# Altium footprint library SparkFun-Aesthetics.PCBLIB: 126 footprints (part 7 of 8)
Each footprint in its own frame and in the unit in brackets; x right, y up, seen from the top. Pads: shape width x height; smd on the part's side, far side on the other; paste and mask are expansions set on the pad; w line width, h text height; cw(c..) or ccw(c..) is an arc to the next point about the centre after c.
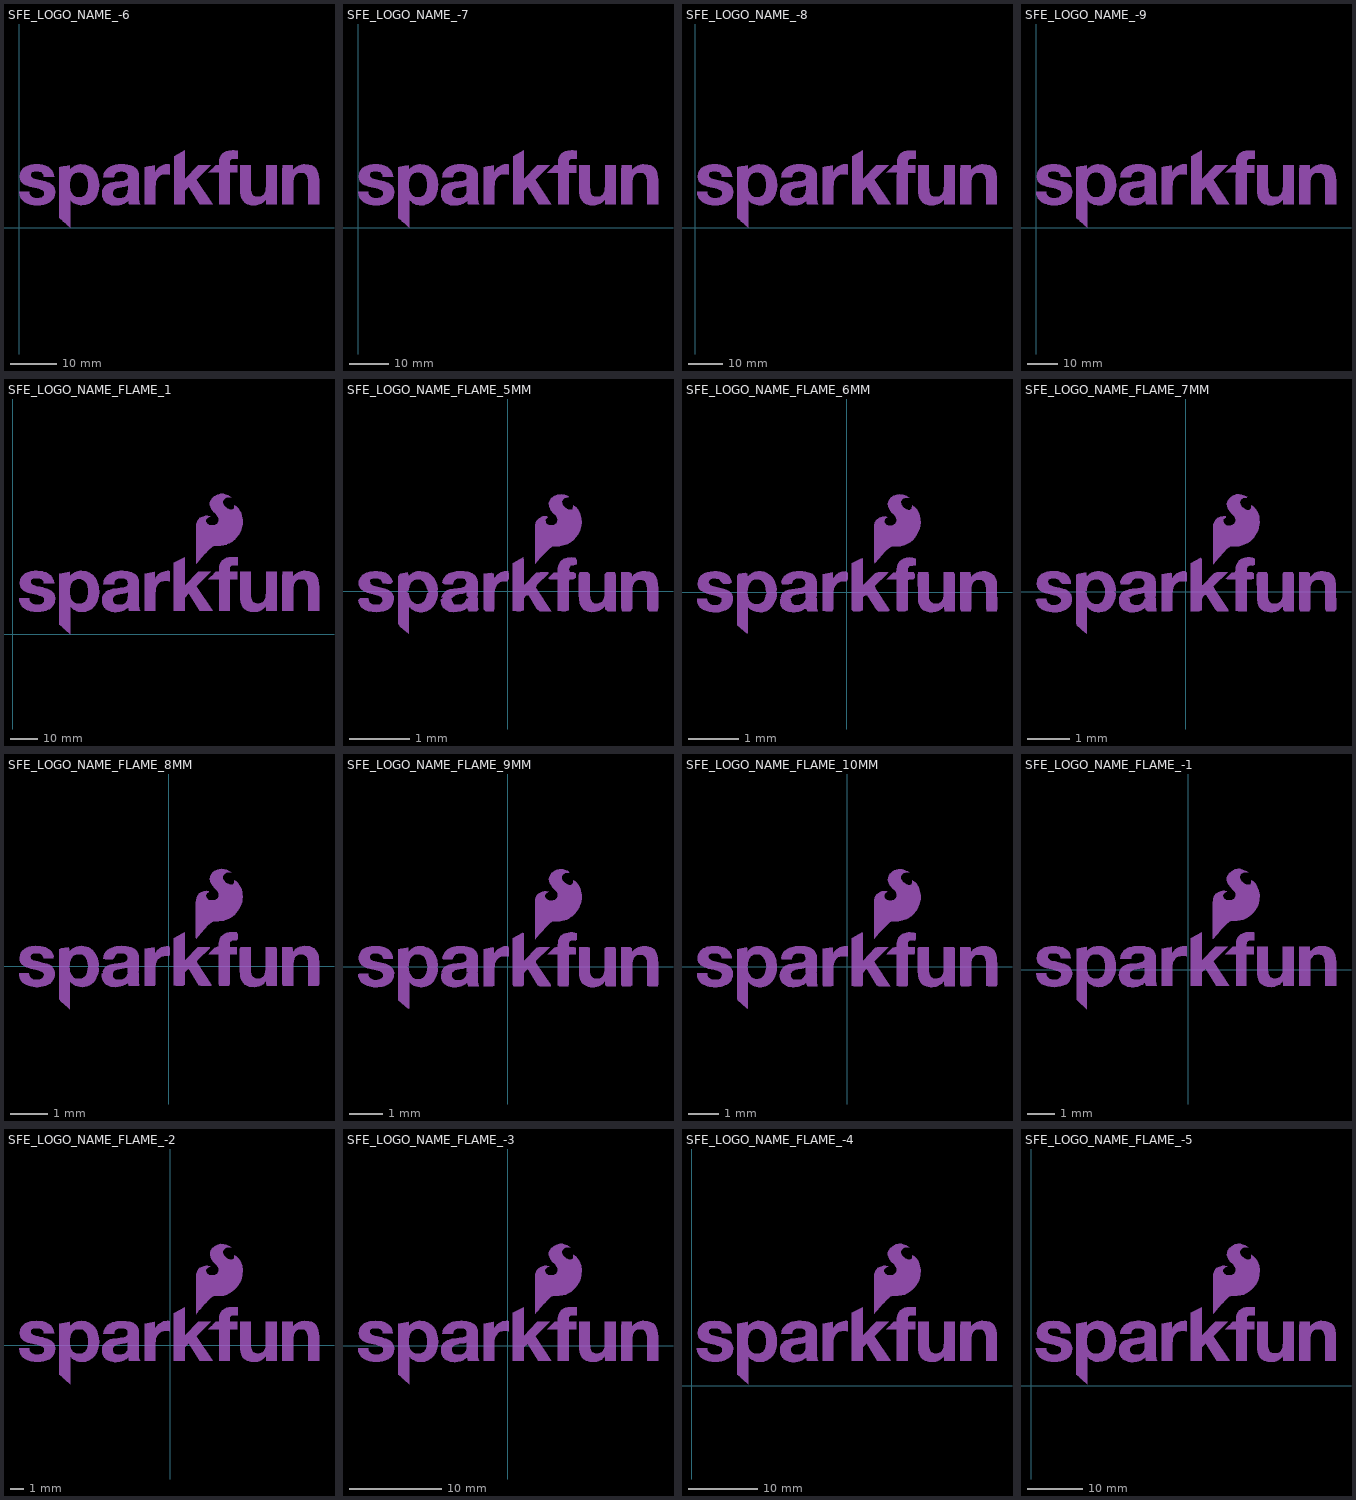
[diagram p6: the footprints below, top view; thin cyan lines are the x and y axes]

## SFE_LOGO_NAME_-6 [mil]
tPlace:
  drawing of 10 lines, arcs and shapes, not listed

## SFE_LOGO_NAME_-7 [mil]
tPlace:
  drawing of 10 lines, arcs and shapes, not listed

## SFE_LOGO_NAME_-8 [mil]
tPlace:
  drawing of 10 lines, arcs and shapes, not listed

## SFE_LOGO_NAME_-9 [mil]
tPlace:
  drawing of 10 lines, arcs and shapes, not listed

## SFE_LOGO_NAME_FLAME_1 [mil]
tPlace:
  drawing of 11 lines, arcs and shapes, not listed

## SFE_LOGO_NAME_FLAME_5MM [mil]
tPlace:
  drawing of 11 lines, arcs and shapes, not listed

## SFE_LOGO_NAME_FLAME_6MM [mil]
tPlace:
  drawing of 11 lines, arcs and shapes, not listed

## SFE_LOGO_NAME_FLAME_7MM [mil]
tPlace:
  drawing of 11 lines, arcs and shapes, not listed

## SFE_LOGO_NAME_FLAME_8MM [mil]
tPlace:
  drawing of 11 lines, arcs and shapes, not listed

## SFE_LOGO_NAME_FLAME_9MM [mil]
tPlace:
  drawing of 11 lines, arcs and shapes, not listed

## SFE_LOGO_NAME_FLAME_10MM [mil]
tPlace:
  drawing of 11 lines, arcs and shapes, not listed

## SFE_LOGO_NAME_FLAME_-1 [mil]
tPlace:
  drawing of 11 lines, arcs and shapes, not listed

## SFE_LOGO_NAME_FLAME_-2 [mil]
tPlace:
  drawing of 11 lines, arcs and shapes, not listed

## SFE_LOGO_NAME_FLAME_-3 [mil]
tPlace:
  drawing of 11 lines, arcs and shapes, not listed

## SFE_LOGO_NAME_FLAME_-4 [mil]
tPlace:
  drawing of 11 lines, arcs and shapes, not listed

## SFE_LOGO_NAME_FLAME_-5 [mil]
tPlace:
  drawing of 11 lines, arcs and shapes, not listed